# Altium footprint library FPC.PcbLib: 3 footprints
Each footprint in its own frame and in the unit in brackets; x right, y up, seen from the top. Pads: shape width x height; smd on the part's side, far side on the other; paste and mask are expansions set on the pad; w line width, h text height; cw(c..) or ccw(c..) is an arc to the next point about the centre after c.
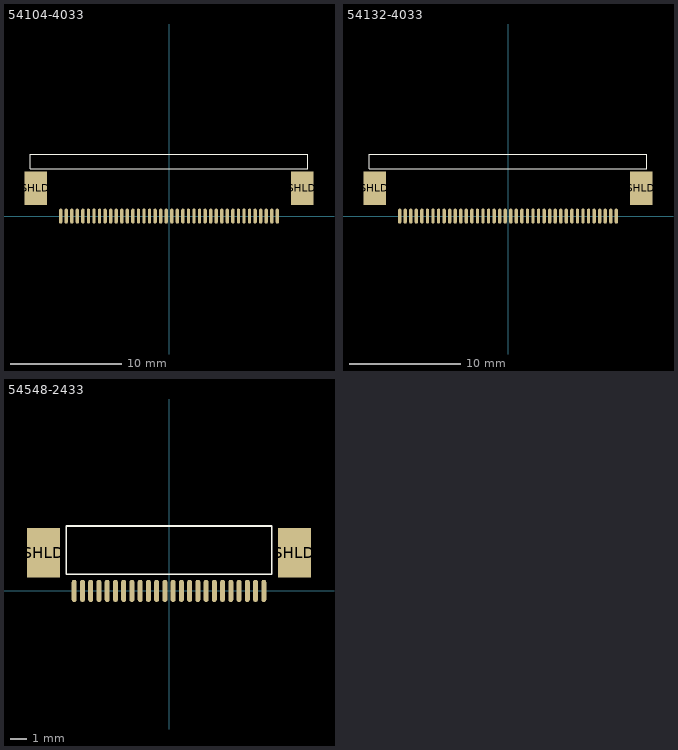
[diagram p0: the footprints below, top view; thin cyan lines are the x and y axes]

## 54104-4033 [mm] "0.50mm Pitch Easy-On™ Type FFC/FPC Connector, Right Angle, Surface Mount, ZIF, Top Contact Style, 40 Circuits"
pads (42):
  oval 0.3x1.35 smd mask+0.1: 1(-9.75,0) 2(-9.25,0) 3(-8.75,0) 4(-8.25,0) 5(-7.75,0) 6(-7.25,0) 7(-6.75,0) 8(-6.25,0) 9(-5.75,0) 10(-5.25,0) 11(-4.75,0) 12(-4.25,0) 13(-3.75,0) 14(-3.25,0) 15(-2.75,0) 16(-2.25,0) 17(-1.75,0) 18(-1.25,0) 19(-0.75,0) 20(-0.25,0) 21(0.25,0) 22(0.75,0) 23(1.25,0) 24(1.75,0) 25(2.25,0) 26(2.75,0) 27(3.25,0) 28(3.75,0) 29(4.25,0) 30(4.75,0) 31(5.25,0) 32(5.75,0) 33(6.25,0) 34(6.75,0) 35(7.25,0) 36(7.75,0) 37(8.25,0) 38(8.75,0) 39(9.25,0) 40(9.75,0)
  rect 2x3 smd mask+0.1: SHLD(-12,2.5) SHLD(12,2.5)
Top Overlay:
  lines w0.1: -12.5,4.25 -12.5,5.55 12.5,5.55 12.5,4.25 -12.5,4.25
3D body "541044033.stp": height 2.01, standoff -0.04, extent -12.75,-0.05 12.75,7.1

## 54132-4033 [mm] "0.50mm Pitch Easy-On™ Type FFC/FPC Connector, Right Angle, Surface Mount, ZIF, Bottom Contact Style, 40 Circuits"
pads (42):
  oval 0.3x1.35 smd mask+0.1: 1(-9.75,0) 2(-9.25,0) 3(-8.75,0) 4(-8.25,0) 5(-7.75,0) 6(-7.25,0) 7(-6.75,0) 8(-6.25,0) 9(-5.75,0) 10(-5.25,0) 11(-4.75,0) 12(-4.25,0) 13(-3.75,0) 14(-3.25,0) 15(-2.75,0) 16(-2.25,0) 17(-1.75,0) 18(-1.25,0) 19(-0.75,0) 20(-0.25,0) 21(0.25,0) 22(0.75,0) 23(1.25,0) 24(1.75,0) 25(2.25,0) 26(2.75,0) 27(3.25,0) 28(3.75,0) 29(4.25,0) 30(4.75,0) 31(5.25,0) 32(5.75,0) 33(6.25,0) 34(6.75,0) 35(7.25,0) 36(7.75,0) 37(8.25,0) 38(8.75,0) 39(9.25,0) 40(9.75,0)
  rect 2x3 smd mask+0.1: SHLD(-12,2.5) SHLD(12,2.5)
Top Overlay:
  lines w0.1: -12.5,4.25 -12.5,5.55 12.5,5.55 12.5,4.25 -12.5,4.25
3D body "541324033.stp": height 1.96, standoff -0.04, extent -12.75,-0.05 12.75,5.55

## 54548-2433 [mm] "0.50mm Pitch Easy-On™ Type FFC/FPC Connector, 1.20mm Height, Right Angle, Surface Mount, ZIF, Bottom Contact Style, 24 Circuits"
pads (26):
  oval 0.3x1.35 smd: 1(-5.75,0) 2(-5.25,0) 3(-4.75,0) 4(-4.25,0) 5(-3.75,0) 6(-3.25,0) 7(-2.75,0) 8(-2.25,0) 9(-1.75,0) 10(-1.25,0) 11(-0.75,0) 12(-0.25,0) 13(0.25,0) 14(0.75,0) 15(1.25,0) 16(1.75,0) 17(2.25,0) 18(2.75,0) 19(3.25,0) 20(3.75,0) 21(4.25,0) 22(4.75,0) 23(5.25,0) 24(5.75,0)
  rect 2x3 smd: SHLD(-7.6,2.3) SHLD(7.6,2.3)
Top Overlay:
  lines w0.1: -6.223,1.016 -6.223,3.937 6.223,3.937 6.223,1.016 -6.223,1.016
3D body "545482433.stp": height 1.21, standoff 0.01, extent -8.6,-0.05 8.6,4.95